# EAGLE library part STM32G473-48 (library Bits_library_eagle 9x)
STM32G473 LQFP128
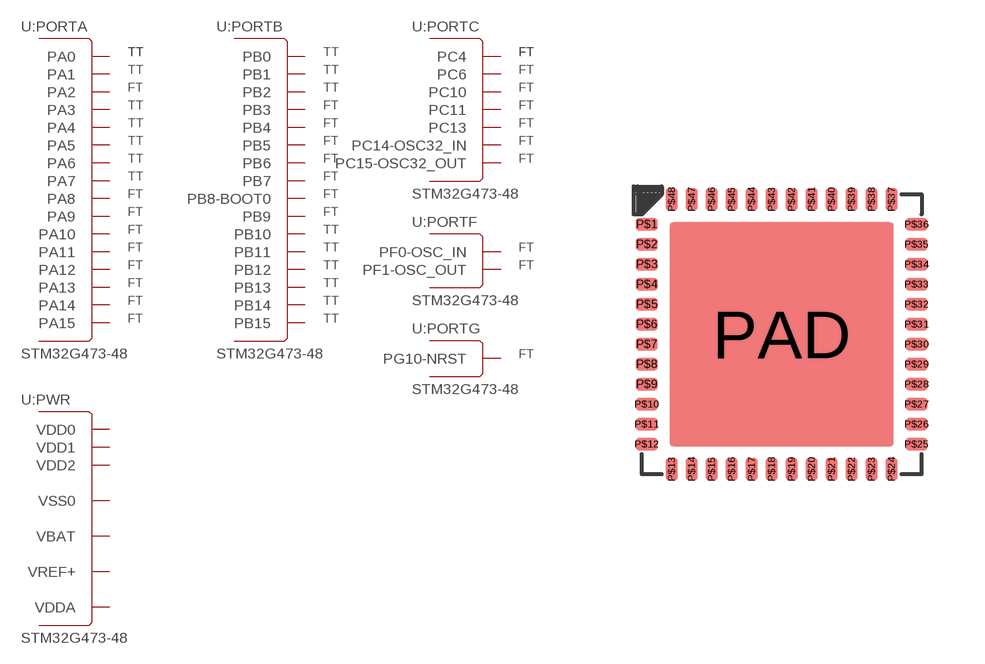
[diagram p58: symbol with the pads of UFQFPN48; footprint UFQFPN48]

Designator prefix -; gates :PORTA=STM32-PORTA-48 :PORTB=STM32-PORTB-48 :PORTC=STM32-PORTC-48 :PORTF=STM32-PORTF-48 :PORTG=STM32-PORTG-48 :PWR=STM32-PWR-48

## STM32G473-48  [UFQFPN48]
P$1  :PWR:VBAT  pwr
P$2  :PORTC:PC13
P$3  :PORTC:PC14-OSC32_IN
P$4  :PORTC:PC15-OSC32_OUT
P$5  :PORTF:PF0-OSC_IN
P$6  :PORTF:PF1-OSC_OUT
P$7  :PORTG:PG10-NRST
P$8  :PORTA:PA0
P$9  :PORTA:PA1
P$10  :PORTA:PA2
P$11  :PORTA:PA3
P$12  :PORTA:PA4
P$13  :PORTA:PA5
P$14  :PORTA:PA6
P$15  :PORTA:PA7
P$16  :PORTC:PC4
P$17  :PORTB:PB0
P$18  :PORTB:PB1
P$19  :PORTB:PB2
P$20  :PWR:VREF+  pwr
P$21  :PWR:VDDA  pwr
P$22  :PORTB:PB10
P$23  :PWR:VDD0  pwr
P$24  :PORTB:PB11
P$25  :PORTB:PB12
P$26  :PORTB:PB13
P$27  :PORTB:PB14
P$28  :PORTB:PB15
P$29  :PORTC:PC6
P$30  :PORTA:PA8
P$31  :PORTA:PA9
P$32  :PORTA:PA10
P$33  :PORTA:PA11
P$34  :PORTA:PA12
P$35  :PWR:VDD1  pwr
P$36  :PORTA:PA13
P$37  :PORTA:PA14
P$38  :PORTA:PA15
P$39  :PORTC:PC10
P$40  :PORTC:PC11
P$41  :PORTB:PB3
P$42  :PORTB:PB4
P$43  :PORTB:PB5
P$44  :PORTB:PB6
P$45  :PORTB:PB7
P$46  :PORTB:PB8-BOOT0
P$47  :PORTB:PB9
P$48  :PWR:VDD2  pwr
PAD  :PWR:VSS0  pwr

## Footprint UFQFPN48 (pad centres in mm)
48-pin QFN 7 x 7 mm LF48 48 Quad Flat Package No Leads Source: http://v4.cypress.com/cfuploads/img/products/cywusb6934.pdf
smd 0.55 x 0.3: P$1 -3.375,2.75; P$2 -3.375,2.25; P$3 -3.375,1.75; P$4 -3.375,1.25; P$5 -3.375,0.75; P$6 -3.375,0.25; P$7 -3.375,-0.25; P$8 -3.375,-0.75; P$9 -3.375,-1.25; P$10 -3.375,-1.75; P$11 -3.375,-2.25; P$12 -3.375,-2.75; P$25 3.375,-2.75; P$26 3.375,-2.25; P$27 3.375,-1.75; P$28 3.375,-1.25; P$29 3.375,-0.75; P$30 3.375,-0.25; P$31 3.375,0.25; P$32 3.375,0.75; P$33 3.375,1.25; P$34 3.375,1.75; P$35 3.375,2.25; P$36 3.375,2.75
smd 0.3 x 0.55: P$13 -2.75,-3.375; P$14 -2.25,-3.375; P$15 -1.75,-3.375; P$16 -1.25,-3.375; P$17 -0.75,-3.375; P$18 -0.25,-3.375; P$19 0.25,-3.375; P$20 0.75,-3.375; P$21 1.25,-3.375; P$22 1.75,-3.375; P$23 2.25,-3.375; P$24 2.75,-3.375; P$37 2.75,3.375; P$38 2.25,3.375; P$39 1.75,3.375; P$40 1.25,3.375; P$41 0.75,3.375; P$42 0.25,3.375; P$43 -0.25,3.375; P$44 -0.75,3.375; P$45 -1.25,3.375; P$46 -1.75,3.375; P$47 -2.25,3.375; P$48 -2.75,3.375
smd 5.6 x 5.6: PAD 0,0